# EAGLE library part SAMTEC_LSHM-150-DV_JB1 (library df4iah_connector)
SAMTEC LSHM-150-XX.X-X-DV-A-X-X-TR HIGH-SPEED HERMAPHRODITIC STRIP 100 Pos 0.5 mm padding
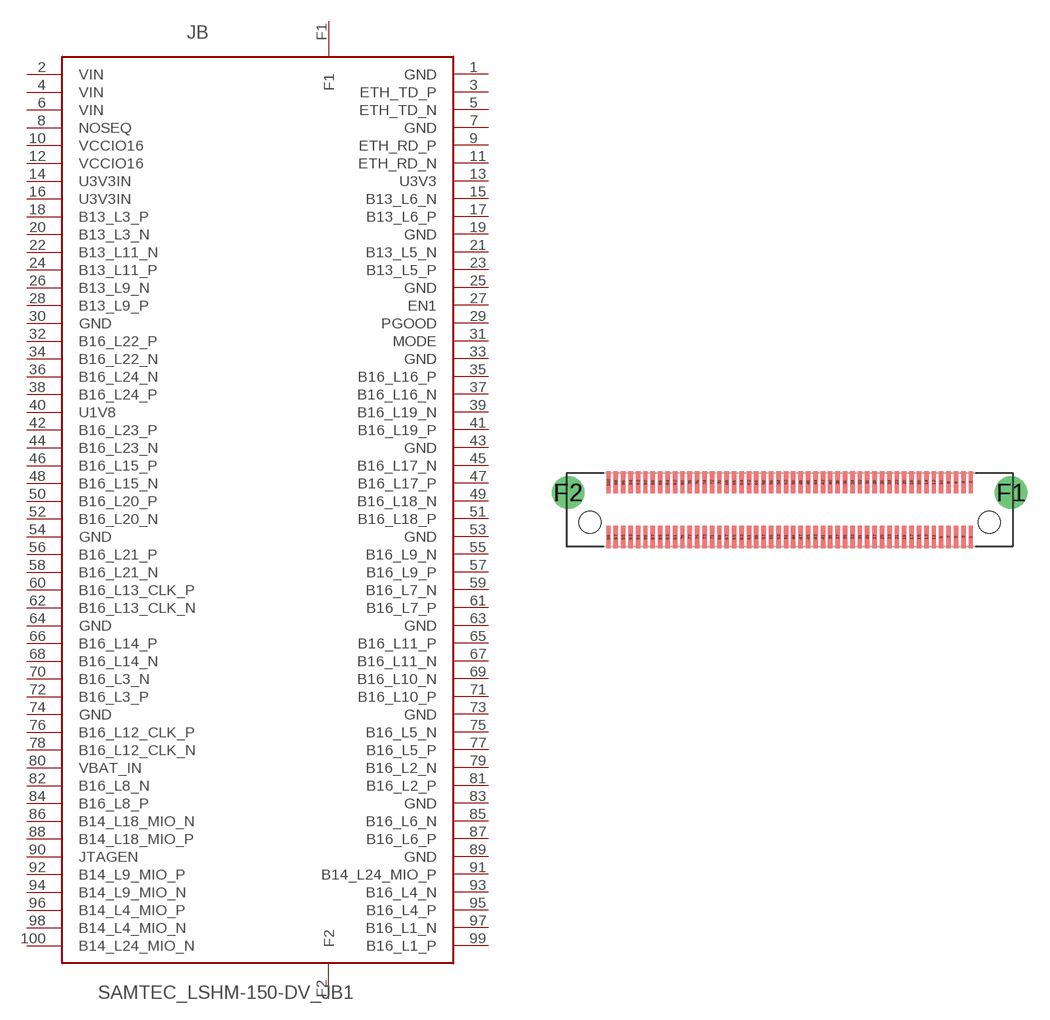
[diagram p32: symbol with the pads of SAMTEC_LSHM-150-DV; footprint SAMTEC_LSHM-150-DV]

Designator prefix JB

## SAMTEC_LSHM-150-DV_JB1  [SAMTEC_LSHM-150-DV]
1  GND  pas
2  VIN  pwr
3  ETH_TD_P  out
4  VIN  pwr
5  ETH_TD_N  out
6  VIN  pwr
7  GND  pas
8  NOSEQ  pas
9  ETH_RD_P  in
10  VCCIO16  pwr
11  ETH_RD_N  in
12  VCCIO16  pwr
13  U3V3  sup
14  U3V3IN  pwr
15  B13_L6_N  pas
16  U3V3IN  pwr
17  B13_L6_P  pas
18  B13_L3_P  pas
19  GND  pas
20  B13_L3_N  pas
21  B13_L5_N  pas
22  B13_L11_N  pas
23  B13_L5_P  pas
24  B13_L11_P  pas
25  GND  pas
26  B13_L9_N  pas
27  EN1  in
28  B13_L9_P  pas
29  PGOOD  out
30  GND  pas
31  MODE  in
32  B16_L22_P  pas
33  GND  pas
34  B16_L22_N  pas
35  B16_L16_P  pas
36  B16_L24_N  pas
37  B16_L16_N  pas
38  B16_L24_P  pas
39  B16_L19_N  pas
40  U1V8  sup
41  B16_L19_P  pas
42  B16_L23_P  pas
43  GND  pas
44  B16_L23_N  pas
45  B16_L17_N  pas
46  B16_L15_P  pas
47  B16_L17_P  pas
48  B16_L15_N  pas
49  B16_L18_N  pas
50  B16_L20_P  pas
51  B16_L18_P  pas
52  B16_L20_N  pas
53  GND  pas
54  GND  pas
55  B16_L9_N  pas
56  B16_L21_P  pas
57  B16_L9_P  pas
58  B16_L21_N  pas
59  B16_L7_N  pas
60  B16_L13_CLK_P  pas
61  B16_L7_P  pas
62  B16_L13_CLK_N  pas
63  GND  pas
64  GND  pas
65  B16_L11_P  pas
66  B16_L14_P  pas
67  B16_L11_N  pas
68  B16_L14_N  pas
69  B16_L10_N  pas
70  B16_L3_N  pas
71  B16_L10_P  pas
72  B16_L3_P  pas
73  GND  pas
74  GND  pas
75  B16_L5_N  pas
76  B16_L12_CLK_P  pas
77  B16_L5_P  pas
78  B16_L12_CLK_N  pas
79  B16_L2_N  pas
80  VBAT_IN  pwr
81  B16_L2_P  pas
82  B16_L8_N  pas
83  GND  pas
84  B16_L8_P  pas
85  B16_L6_N  pas
86  B14_L18_MIO_N  pas
87  B16_L6_P  pas
88  B14_L18_MIO_P  pas
89  GND  pas
90  JTAGEN  in
91  B14_L24_MIO_P  pas
92  B14_L9_MIO_P  pas
93  B16_L4_N  pas
94  B14_L9_MIO_N  pas
95  B16_L4_P  pas
96  B14_L4_MIO_P  pas
97  B16_L1_N  pas
98  B14_L4_MIO_N  pas
99  B16_L1_P  pas
100  B14_L24_MIO_N  pas
F1  F1  pas
F2  F2  pas

## Footprint SAMTEC_LSHM-150-DV (pad centres in mm)
SAMTEC LSHM-150-XX.X-X-DV-A-X-X-TR HIGH-SPEED HERMAPHRODITIC STRIP 100 Pos 0.5 mm padding
smd 0.3 x 1.5: 1 12.25,-1.85; 2 12.25,1.85; 3 11.75,-1.85; 4 11.75,1.85; 5 11.25,-1.85; 6 11.25,1.85; 7 10.75,-1.85; 8 10.75,1.85; 9 10.25,-1.85; 10 10.25,1.85; 11 9.75,-1.85; 12 9.75,1.85; 13 9.25,-1.85; 14 9.25,1.85; 15 8.75,-1.85; 16 8.75,1.85; 17 8.25,-1.85; 18 8.25,1.85; 19 7.75,-1.85; 20 7.75,1.85; 21 7.25,-1.85; 22 7.25,1.85; 23 6.75,-1.85; 24 6.75,1.85; 25 6.25,-1.85; 26 6.25,1.85; 27 5.75,-1.85; 28 5.75,1.85; 29 5.25,-1.85; 30 5.25,1.85; 31 4.75,-1.85; 32 4.75,1.85; 33 4.25,-1.85; 34 4.25,1.85; 35 3.75,-1.85; 36 3.75,1.85; 37 3.25,-1.85; 38 3.25,1.85; 39 2.75,-1.85; 40 2.75,1.85; 41 2.25,-1.85; 42 2.25,1.85; 43 1.75,-1.85; 44 1.75,1.85; 45 1.25,-1.85; 46 1.25,1.85; 47 0.75,-1.85; 48 0.75,1.85; 49 0.25,-1.85; 50 0.25,1.85; 51 -0.25,-1.85; 52 -0.25,1.85; 53 -0.75,-1.85; 54 -0.75,1.85; 55 -1.25,-1.85; 56 -1.25,1.85; 57 -1.75,-1.85; 58 -1.75,1.85; 59 -2.25,-1.85; 60 -2.25,1.85; 61 -2.75,-1.85; 62 -2.75,1.85; 63 -3.25,-1.85; 64 -3.25,1.85; 65 -3.75,-1.85; 66 -3.75,1.85; 67 -4.25,-1.85; 68 -4.25,1.85; 69 -4.75,-1.85; 70 -4.75,1.85; 71 -5.25,-1.85; 72 -5.25,1.85; 73 -5.75,-1.85; 74 -5.75,1.85; 75 -6.25,-1.85; 76 -6.25,1.85; 77 -6.75,-1.85; 78 -6.75,1.85; 79 -7.25,-1.85; 80 -7.25,1.85; 81 -7.75,-1.85; 82 -7.75,1.85; 83 -8.25,-1.85; 84 -8.25,1.85; 85 -8.75,-1.85; 86 -8.75,1.85; 87 -9.25,-1.85; 88 -9.25,1.85; 89 -9.75,-1.85; 90 -9.75,1.85; 91 -10.25,-1.85; 92 -10.25,1.85; 93 -10.75,-1.85; 94 -10.75,1.85; 95 -11.25,-1.85; 96 -11.25,1.85; 97 -11.75,-1.85; 98 -11.75,1.85; 99 -12.25,-1.85; 100 -12.25,1.85
drill 1 pad 2.2: F1 14.975,1.15; F2 -14.975,1.15
hole 1.5 at 13.5,-0.85
hole 1.5 at -13.5,-0.85